# EAGLE library part SLG46824G (library GREENPAK)
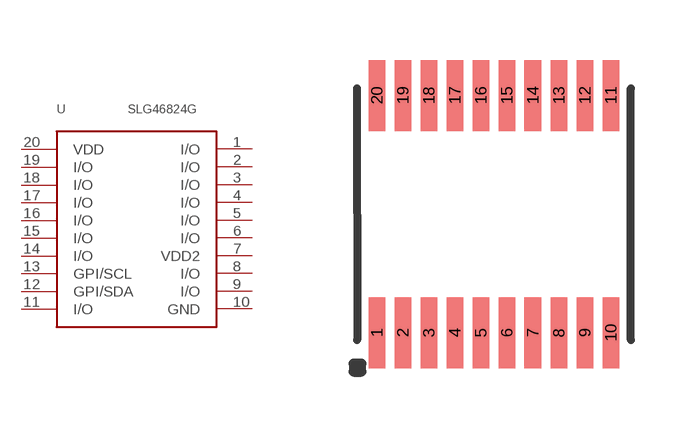
[diagram p44: symbol with the pads of TSOP-20; footprint TSOP-20]

Designator prefix -

## SLG46824G  [TSOP-20]
1  I/O
2  I/O
3  I/O
4  I/O
5  I/O
6  I/O
7  VDD2  pwr
8  I/O
9  I/O
10  GND  pwr
11  I/O
12  GPI/SDA  in
13  GPI/SCL  in
14  I/O
15  I/O
16  I/O
17  I/O
18  I/O
19  I/O  in
20  VDD  pwr

## Footprint TSOP-20 (pad centres in mm)
smd 0.42 x 1.78: 1 -2.925,-2.97; 2 -2.275,-2.97; 3 -1.625,-2.97; 4 -0.975,-2.97; 5 -0.325,-2.97; 6 0.325,-2.97; 7 0.975,-2.97; 8 1.625,-2.97; 9 2.275,-2.97; 10 2.925,-2.97; 11 2.925,2.97; 12 2.275,2.97; 13 1.625,2.97; 14 0.975,2.97; 15 0.325,2.97; 16 -0.325,2.97; 17 -0.975,2.97; 18 -1.625,2.97; 19 -2.275,2.97; 20 -2.925,2.97